# EAGLE library part TJA1040 (library SolarJackets_Common)
High-Speed CAN transceiver: 4.75-5.25 V Supply Voltage; 5-15 microA Supply Current; DC Voltage on Pin CANH- -27-40 V; DC Voltage on Pin CANL- -27-40 V; DC Voltage on Pin SPLIT- -27-40 V; Package- SO-08;
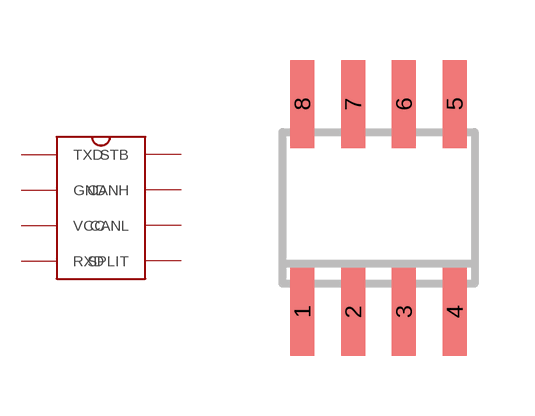
[diagram p11: symbol with the pads of SO-08; footprint SO-08]

Designator prefix -

## TJA1040  [SO-08]
1  TXD
2  GND
3  VCC
4  RXD
5  SPLIT
6  CANL
7  CANH
8  STB

## Footprint SO-08 (pad centres in mm)
Small Outline Narrow Plastic Gull Wing 150-mil body, package type SN
smd 0.6 x 2.2: 1 -1.905,-2.6; 2 -0.635,-2.6; 3 0.635,-2.6; 4 1.905,-2.6; 5 1.905,2.6; 6 0.635,2.6; 7 -0.635,2.6; 8 -1.905,2.6